# EAGLE library part SWS003 (library smd-special)
SMD Dip Switch 3 pol.
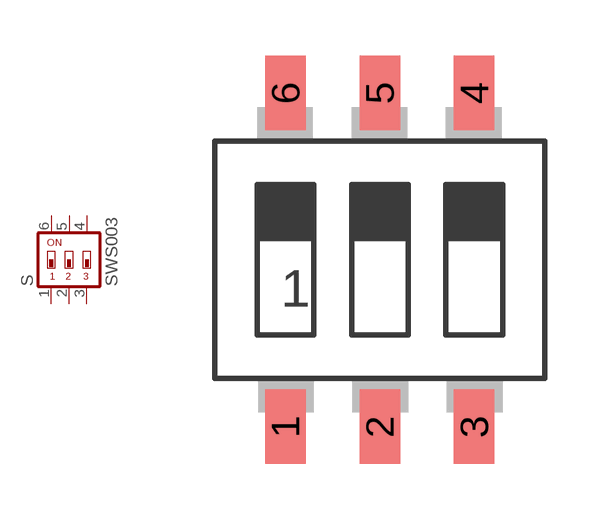
[diagram p6: symbol with the pads of SMS-003; footprint SMS-003]

Designator prefix S

## SWS003  [SMS-003]
1  1  pas
2  2  pas
3  3  pas
4  4  pas
5  5  pas
6  6  pas

## Footprint SMS-003 (pad centres in mm)
DIP SWITCH
smd 1.092 x 2.007: 1 -2.54,-4.496; 2 0,-4.496; 3 2.54,-4.496; 4 2.54,4.496; 5 0,4.496; 6 -2.54,4.496